# EAGLE library part CY29942 (library NewSDR)
Cypress 2.5V or 3.3V, 200 MHz, 1:18 Clock Distribution Buffer
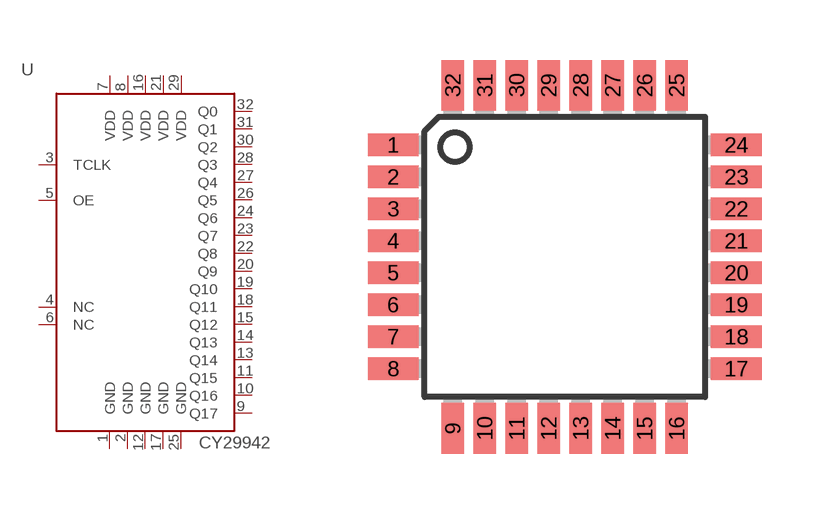
[diagram p147: symbol with the pads of TQFP32-08; footprint TQFP32-08]

Designator prefix -

## CY29942  [TQFP32-08]
1  GND  pwr
2  GND  pwr
3  TCLK  in
4  NC  nc
5  OE  in
6  NC  nc
7  VDD  pwr
8  VDD  pwr
9  Q17  out
10  Q16  out
11  Q15  out
12  GND  pwr
13  Q14  out
14  Q13  out
15  Q12  out
16  VDD  pwr
17  GND  pwr
18  Q11  out
19  Q10  out
20  Q9  out
21  VDD  pwr
22  Q8  out
23  Q7  out
24  Q6  out
25  GND  pwr
26  Q5  out
27  Q4  out
28  Q3  out
29  VDD  pwr
30  Q2  out
31  Q1  out
32  Q0  out

## Footprint TQFP32-08 (pad centres in mm)
Thin Plasic Quad Flat Package Grid 0.8 mm
smd 1.27 x 0.559: 1 -4.293,2.8; 2 -4.293,2; 3 -4.293,1.2; 4 -4.293,0.4; 5 -4.293,-0.4; 6 -4.293,-1.2; 7 -4.293,-2; 8 -4.293,-2.8; 17 4.293,-2.8; 18 4.293,-2; 19 4.293,-1.2; 20 4.293,-0.4; 21 4.293,0.4; 22 4.293,1.2; 23 4.293,2; 24 4.293,2.8
smd 0.559 x 1.27: 9 -2.8,-4.293; 10 -2,-4.293; 11 -1.2,-4.293; 12 -0.4,-4.293; 13 0.4,-4.293; 14 1.2,-4.293; 15 2,-4.293; 16 2.8,-4.293; 25 2.8,4.293; 26 2,4.293; 27 1.2,4.293; 28 0.4,4.293; 29 -0.4,4.293; 30 -1.2,4.293; 31 -2,4.293; 32 -2.8,4.293